# Altium footprint library Footprint-Lib-ABahlmann-SMD.PcbLib: 105 footprints (part 6 of 7)
Each footprint in its own frame and in the unit in brackets; x right, y up, seen from the top. Pads: shape width x height; smd on the part's side, far side on the other; paste and mask are expansions set on the pad; w line width, h text height; cw(c..) or ccw(c..) is an arc to the next point about the centre after c.
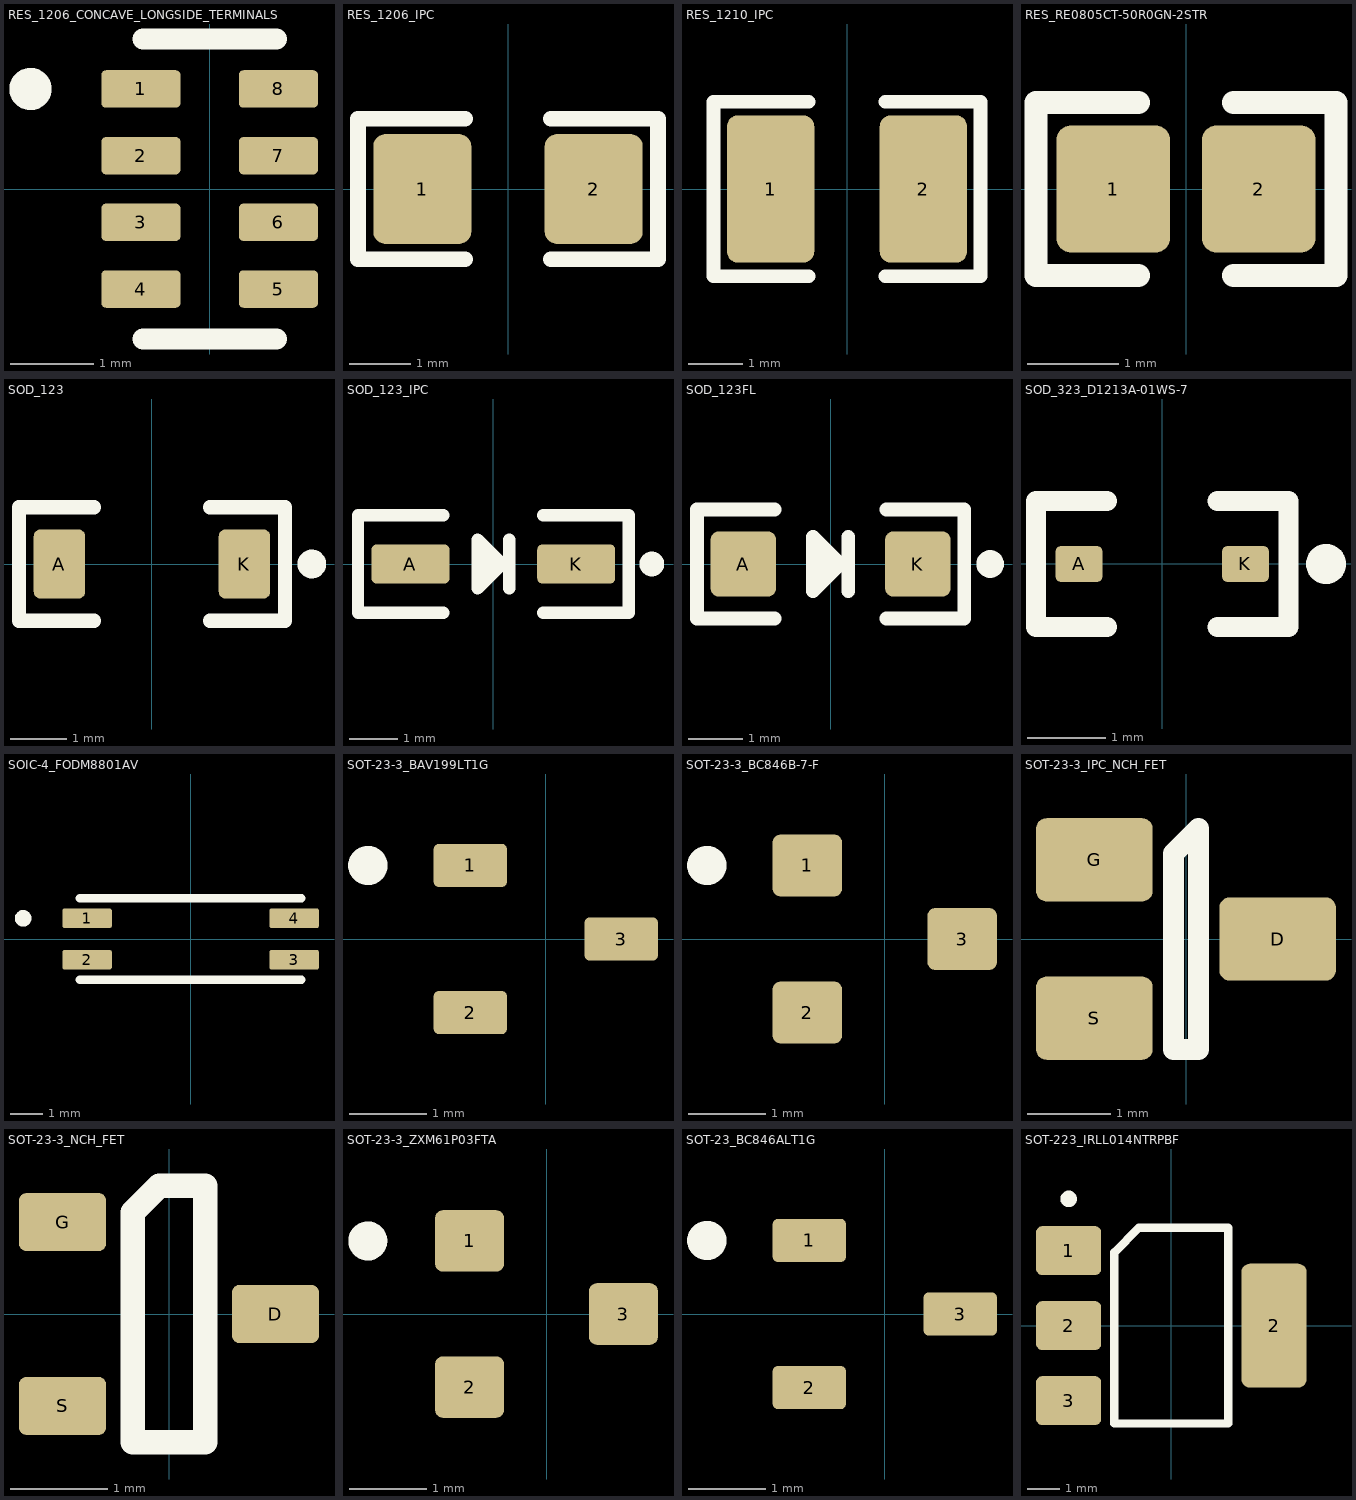
[diagram p5: the footprints below, top view; thin cyan lines are the x and y axes]

## RES_1206_CONCAVE_LONGSIDE_TERMINALS [mm] "10k Ohm ±5% 62.5mW Power Per Element Isolated 4 Resistor Network/Array ±200ppm/°C 1206 (3216 Metric), Concave, Long Side Terminals"
pads (8):
  rrect25% 0.95x0.45 smd mask+0: 1(-0.825,1.2) 2(-0.825,0.4) 3(-0.825,-0.4) 4(-0.825,-1.2) 5(0.825,-1.2) 6(0.825,-0.4) 7(0.825,0.4) 8(0.825,1.2)
Top Overlay:
  circle w0.254: c-2.15,1.2 r0.127
  lines w0.254: -0.8,-1.8 0.8,-1.8 ; -0.8,1.8 0.8,1.8
3D body "cat_16-j4.stp": height 0.51, standoff 0.01, extent -0.775,-1.6 0.775,1.6

## RES_1206_IPC [mm]
pads (2):
  rrect25% 1.6x1.8 smd: 1(-1.4,0) 2(1.4,0)
Top Overlay:
  lines w0.254: -0.7,-1.15 -2.45,-1.15 -2.45,1.15 -0.7,1.15 ; 0.7,-1.15 2.45,-1.15 2.45,1.15 0.7,1.15
3D body "RES_1206.step": height 0.61, standoff 0.01, extent -1.6,-0.8 1.6,0.8

## RES_1210_IPC [mm]
pads (2):
  rrect25% 1.6x2.7 smd: 1(-1.4,0) 2(1.4,0)
Top Overlay:
  lines w0.254: -0.7,-1.6 -2.45,-1.6 -2.45,1.6 -0.7,1.6 ; 0.7,-1.6 2.45,-1.6 2.45,1.6 0.7,1.6
3D body "RES_1210.step": height 0.61, standoff 0.01, extent -1.6,-1.25 1.6,1.25

## RES_RE0805CT-50R0GN-2STR [mm] "50 Ohms ±2% 5W Chip Resistor 0805 (2012 Metric) Thick Film"
pads (2):
  rrect25% 1.25x1.4 smd mask+0.07: 1(-0.8,0) 2(0.8,0)
Top Overlay:
  lines w0.254: -0.525,-0.95 -1.65,-0.95 -1.65,0.95 -0.525,0.95 ; 0.525,-0.95 1.65,-0.95 1.65,0.95 0.525,0.95
3D body "RE0805CT-50R0GN-2STR.stp": height 0.89, standoff 0, extent -1.016,-0.635 1.016,0.635

## SOD_123 [mm]
pads (2):
  rrect25% 0.91x1.22 smd: A(-1.635,0) K(1.635,0)
Top Overlay:
  circle w0.254: c2.825,0 r0.127
  lines w0.254: -1.025,-1 -2.35,-1 -2.35,1 -1.025,1 ; 1.025,-1 2.35,-1 2.35,1 1.025,1
3D body "SOD-123.step": height 1.37, standoff 0.01, extent -1.925,-0.85 1.925,0.85

## SOD_123_IPC [mm]
pads (2):
  rrect25% 1.6x0.8 smd: A(-1.7,0) K(1.7,0)
Top Overlay:
  circle w0.254: c3.25,0 r0.127
  region: -0.325,0.5 0.175,0 -0.325,-0.5
  lines w0.254: -1.025,-1 -2.775,-1 -2.775,1 -1.025,1 ; 0.325,-0.5 0.325,0.5 ; 1.025,-1 2.775,-1 2.775,1 1.025,1 ; -0.325,-0.5 0.175,0 -0.325,0.5 -0.325,-0.5
3D body "SOD-123.step": height 1.37, standoff 0.01, extent -1.925,-0.85 1.925,0.85

## SOD_123FL [mm]
pads (2):
  rrect25% 1.2x1.2 smd: A(-1.6,0) K(1.6,0)
Top Overlay:
  circle w0.254: c2.925,0 r0.127
  region: -0.325,0.5 0.175,0 -0.325,-0.5
  lines w0.254: -1.025,-1 -2.45,-1 -2.45,1 -1.025,1 ; 0.325,-0.5 0.325,0.5 ; 1.025,-1 2.45,-1 2.45,1 1.025,1 ; -0.325,-0.5 0.175,0 -0.325,0.5 -0.325,-0.5
3D body "SOD-123FL.stp": height 0.92, standoff 0.01, extent -1.81,-0.85 1.81,0.85

## SOD_323_D1213A-01WS-7 [mm] "10V (Typ) Clamp 5A (8/20µs) Ipp Tvs Diode Surface Mount SOD-323"
pads (2):
  rrect25% 0.59x0.45 smd: A(-1.055,0) K(1.055,0)
Top Overlay:
  circle w0.254: c2.075,0 r0.127
  lines w0.254: -0.7,-0.8 -1.6,-0.8 -1.6,0.8 -0.7,0.8 ; 0.7,-0.8 1.6,-0.8 1.6,0.8 0.7,0.8
3D body "D1213A-01WS-7.stp": height 1.2, standoff 0, extent -1.25,-0.65 1.25,0.65

## SOIC-4_FODM8801AV [mm] "Optoisolator Transistor Output 3750Vrms 1 Channel 4-Mini-Flat"
pads (4):
  rrect25% 1.52x0.61 smd: 1(-3.175,0.635) 2(-3.175,-0.635) 3(3.175,-0.635) 4(3.175,0.635)
Top Overlay:
  circle w0.254: c-5.135,0.635 r0.127
  lines w0.254: -3.4,-1.25 3.4,-1.25 ; -3.4,1.25 3.4,1.25
3D body "FODM8801AV.STEP": height 2.39, standoff 0, extent -3.397,-1.25 3.397,1.25

## SOT-23-3_BAV199LT1G [mm] "Diode Array 1 Pair Series Connection 70 V 215mA (DC) Surface Mount TO-236-3, SC-59, SOT-23-3"
pads (3):
  rrect25% 0.95x0.56 smd: 1(-0.975,0.95) 2(-0.975,-0.95) 3(0.975,0)
Top Overlay:
  circle w0.254: c-2.3,0.95 r0.127
3D body "BAV199LT1G.STEP": height 1.11, standoff 0, extent -1.2,-1.45 1.2,1.45

## SOT-23-3_BC846B-7-F [mm] "Bipolar (BJT) Transistor NPN 65 V 100 mA 300MHz 300 mW Surface Mount SOT-23-3"
pads (3):
  rrect25% 0.9x0.8 smd: 1(-1,0.95) 2(-1,-0.95) 3(1,0)
Top Overlay:
  circle w0.254: c-2.3,0.95 r0.127
3D body "BC846B-7-F.stp": height 1.1, standoff 0, extent -1.2,-1.45 1.2,1.45

## SOT-23-3_IPC_NCH_FET [mm]
pads (3):
  rrect25% 1.4x1 smd: D(1.1,0) G(-1.1,0.95) S(-1.1,-0.95)
Top Overlay:
  lines w0.254: -0.15,-1.325 -0.15,1.025 0.15,1.325 0.15,-1.325 -0.15,-1.325
3D body "SOT23-3.stp": height 1.1, standoff 0, extent -1.25,-1.5 1.25,1.5

## SOT-23-3_NCH_FET [mm]
pads (3):
  rrect25% 0.9x0.6 smd: D(1.1,0) G(-1.1,0.95) S(-1.1,-0.95)
Top Overlay:
  lines w0.254: -0.375,-1.325 0.375,-1.325 0.375,1.325 -0.1,1.325 -0.375,1.05 -0.375,-1.325
3D body "SOT23-3.stp": height 1.1, standoff 0, extent -1.25,-1.5 1.25,1.5

## SOT-23-3_ZXM61P03FTA [mm] "P-Channel 30 V 1.1A (Ta) 625mW (Ta) Surface Mount SOT-23-3"
pads (3):
  rrect25% 0.9x0.8 smd: 1(-1,0.95) 2(-1,-0.95) 3(1,0)
Top Overlay:
  circle w0.254: c-2.325,0.95 r0.127
3D body "ZXM61P03FTA.stp": height 1.02, standoff 0, extent -1.2,-1.45 1.2,1.45

## SOT-23_BC846ALT1G [mm] "Bipolar (BJT) Transistor NPN 65 V 100 mA 100MHz 300 mW Surface Mount SOT-23-3 (TO-236)"
pads (3):
  rrect25% 0.95x0.56 smd: 1(-0.975,0.95) 2(-0.975,-0.95) 3(0.975,0)
Top Overlay:
  circle w0.254: c-2.3,0.95 r0.127
3D body "BC846ALT1G.STEP": height 1.11, standoff 0, extent -1.2,-1.45 1.2,1.45

## SOT-223_IRLL014NTRPBF [mm] "N-Channel 55 V 2A (Ta) 1W (Ta) Surface Mount SOT-223"
pads (4):
  rrect25% 2x1.5 smd mask+0.05: 1(-3.15,2.3) 2(-3.15,0) 3(-3.15,-2.3)
  rrect25% 2x3.8 smd mask+0.05: 2(3.15,0)
Top Overlay:
  circle w0.254: c-3.15,3.888 r0.127
  lines w0.254: -1.75,-3 -1.75,2.25 -1,3 1.75,3 1.75,-3 -1.75,-3
3D body "SOT-223.step": height 1.71, standoff 0.01, extent -3.5,-3.15 3.5,3.15